# Altium footprint library kwPower.pcblib: 50 footprints (part 4 of 4)
Each footprint in its own frame and in the unit in brackets; x right, y up, seen from the top. Pads: shape width x height; smd on the part's side, far side on the other; paste and mask are expansions set on the pad; w line width, h text height; cw(c..) or ccw(c..) is an arc to the next point about the centre after c.
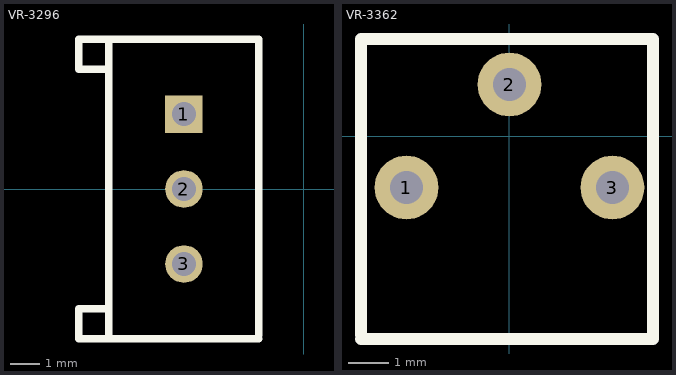
[diagram p3: the footprints below, top view; thin cyan lines are the x and y axes]

## VR-3296 [mil]
pads (3):
  rect 50x50 hole 32: 1(-160,100.33)
  round 50 hole 32: 2(-160,0.33) 3(-160,-99.67)
TopOverlay:
  lines w10: -260,160.33 -300,160.33 -300,200.33 -260,200.33 ; -60,-199.67 -260,-199.67 ; -60,-194.67 -60,-119.67 ; -60,-159.67 -60,140.33 ; -60,125.33 -60,200.33 -260,200.33 ; -260,-199.67 -260,-159.67 ; -260,-199.67 -300,-199.67 -300,-159.67 -260,-159.67 ; -260,-159.67 -260,140.33 -260,180.33 -260,200.33

## VR-3362 [mil]
pads (3):
  round 62 hole 32: 1(-100,-49.67) 2(0,50.33) 3(100,-49.67)
TopOverlay:
  lines w11.81: 139.37,-195.97 139.37,94.58
  lines w12: -144.09,-196.76 139.37,-196.76 ; -144.09,-192.82 -144.09,94.58 139.37,94.58